# Altium schematic symbol library kmilo17pet-NSC_MiscPower.SchLib: 1552 symbols (part 33 of 43)
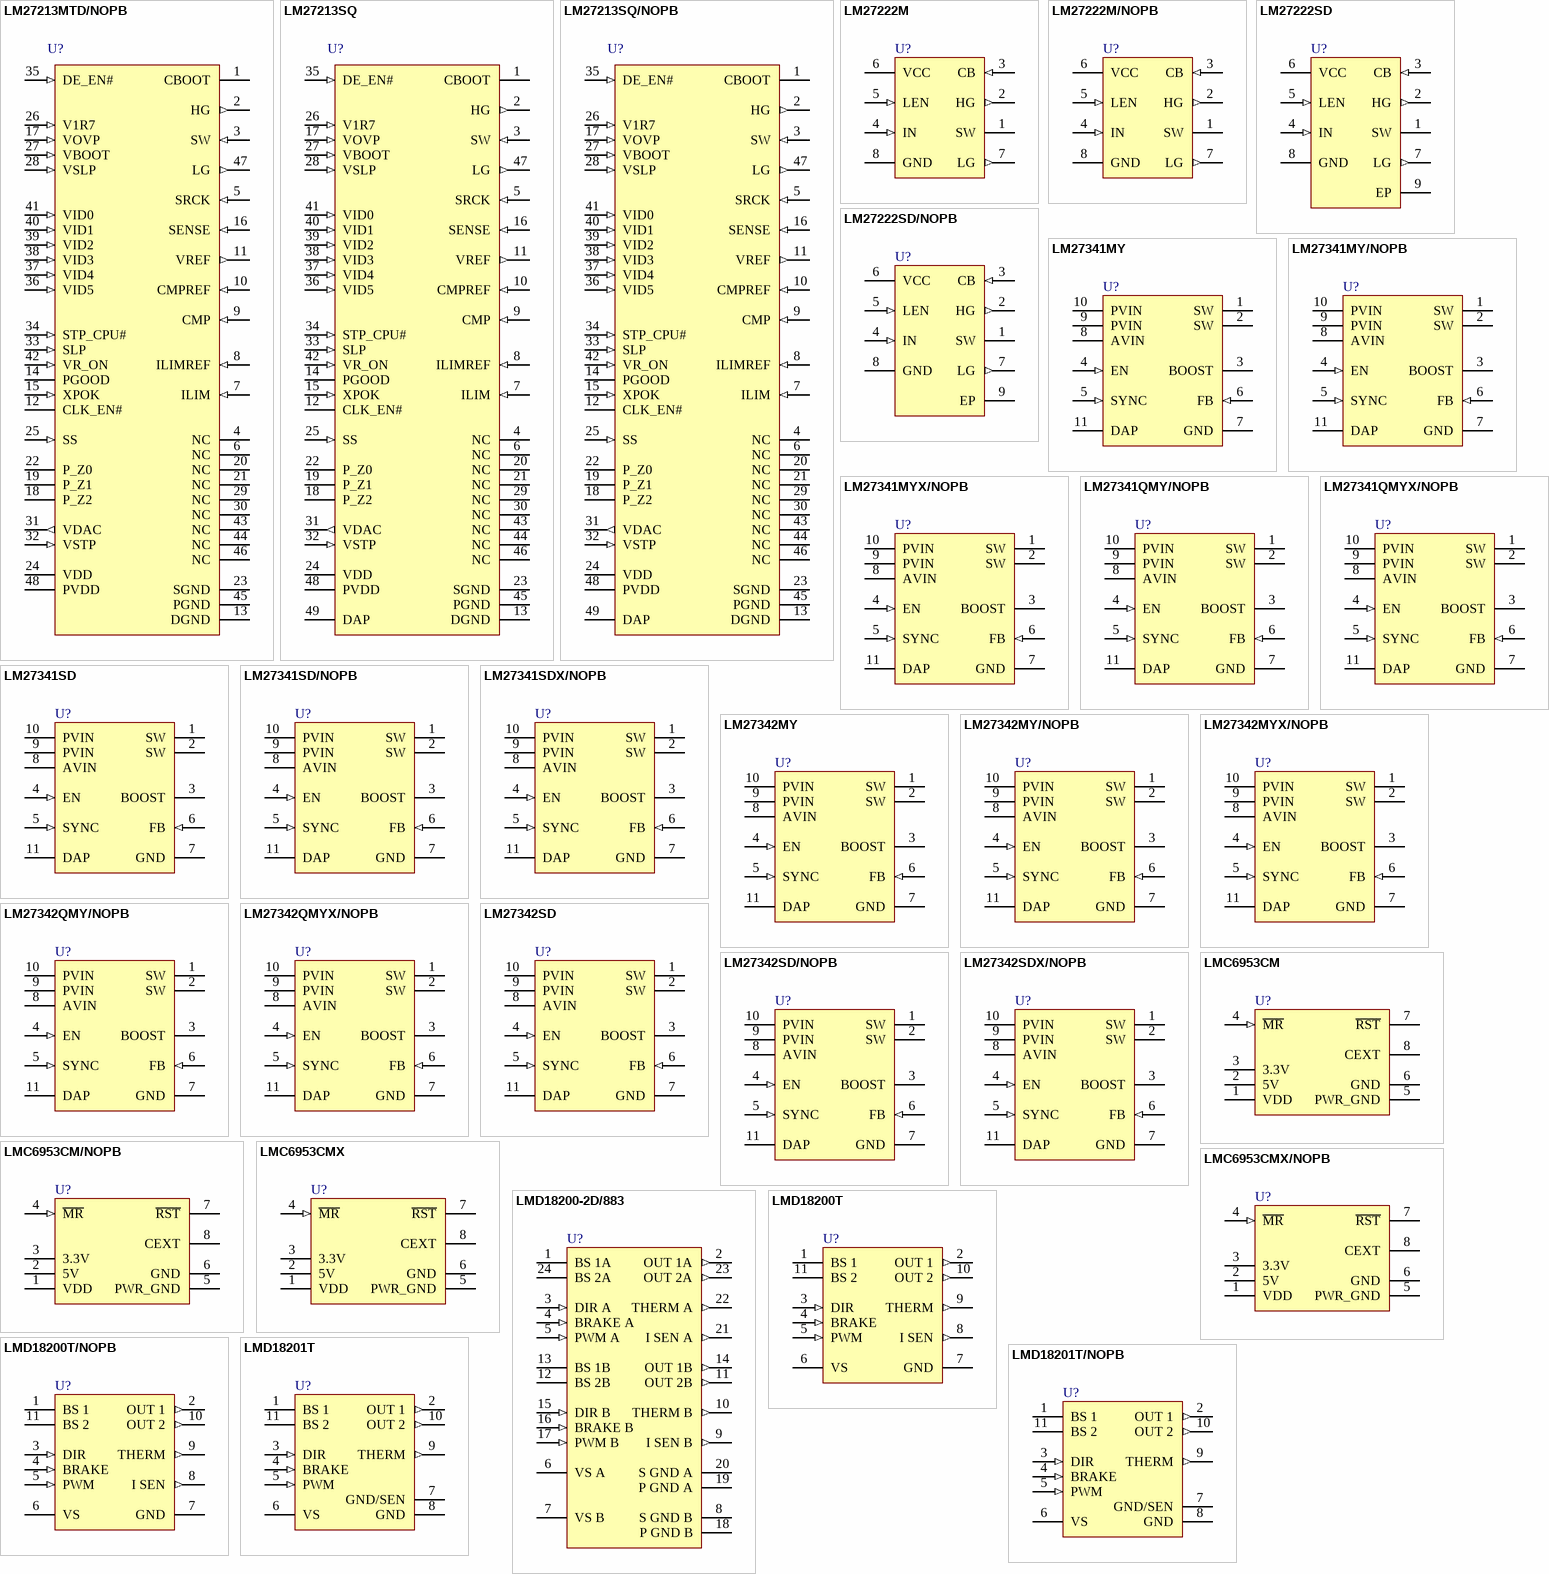
[diagram p89: symbols LM27213MTD/NOPB to LMD18201T/NOPB]

## LM27342SD
designator U?
2MHz 2A - Wide Input Range Buck Regulator with Frequency Synchronization, 10-pin LLP; PartNumber: LM27342SD; Manufacturer: National Semiconductor; PackageTopMarking: ZXYTT*L231A; PowerWise: N; CompType: MiscPower; High-Reliability: Y; DatasheetVersion: Feb-2010; PackageVersion: revA, Oct-2003; PackageReference: SDA10A; PackageDescription: LLP, Plastic, Dual, 3 x 3 x 0.8mm Body, 10 Lead, 0.5mm Pitch, No Pullback; RoHS: Y; PinCount: 10; ComponentLink1Description: Manufacturer URL; ComponentLink1URL: http://www.national.com/; ComponentLink2Description: LM27341 Datasheet; ComponentLink2URL: http://www.national.com/ds/LM/LM27341.pdf; ComponentLink3Description: LM27342 Web Page; ComponentLink3URL: http://www.national.com/pf/LM/LM27342.html; ComponentLink4Description: SDA10A Package Page; ComponentLink4URL: http://www.national.com/packaging/folders/sda10a.html
footprint SDA10A (SON, 10-Leads, Body 3x3 mm, Pitch 0.5mm, NSC Recommended)
pins: 1 SW (power), 2 SW (power), 3 BOOST, 4 EN (in), 5 SYNC (in), 6 FB (in), 7 GND (power), 8 AVIN (power), 9 PVIN (power), 10 PVIN (power), 11 DAP (power)

## LM27342SD/NOPB
designator U?
2A - Wide Input Range Buck Regulator with Frequency Synchronization, 10-pin LLP, Pb-Free; PartNumber: LM27342SD/NOPB; Manufacturer: National Semiconductor; PackageTopMarking: ZXYTT*L231A; PowerWise: N; CompType: MiscPower; High-Reliability: Y; DatasheetVersion: Dec-2008; PackageVersion: revA, Oct-2003; PackageReference: SDA10A; PackageDescription: LLP, Plastic, Dual, 3 x 3 x 0.8mm Body, 10 Lead, 0.5mm Pitch, No Pullback; RoHS: Y; PinCount: 10; ComponentLink1Description: Manufacturer URL; ComponentLink1URL: http://www.national.com/; ComponentLink2Description: LM27342 Datasheet; ComponentLink2URL: http://www.national.com/ds/LM/LM27342.pdf; ComponentLink3Description: LM27342 Web Page; ComponentLink3URL: http://www.national.com/pf/LM/LM27342.html; ComponentLink4Description: SDA10A Package Page; ComponentLink4URL: http://www.national.com/packaging/folders/sda10a.html
footprint SDA10A (SON, 10-Leads, Body 3x3 mm, Pitch 0.5mm, NSC Recommended)
pins: 1 SW (power), 2 SW (power), 3 BOOST, 4 EN (in), 5 SYNC (in), 6 FB (in), 7 GND (power), 8 AVIN (power), 9 PVIN (power), 10 PVIN (power), 11 DAP (power)

## LM27342SDX/NOPB
designator U?
2A - Wide Input Range Buck Regulator with Frequency Synchronization, 10-pin LLP, Pb-Free; PartNumber: LM27342SDX/NOPB; Manufacturer: National Semiconductor; PackageTopMarking: ZXYTT*L231A; PowerWise: N; CompType: MiscPower; High-Reliability: Y; DatasheetVersion: Dec-2008; PackageVersion: revA, Oct-2003; PackageReference: SDA10A; PackageDescription: LLP, Plastic, Dual, 3 x 3 x 0.8mm Body, 10 Lead, 0.5mm Pitch, No Pullback; RoHS: Y; PinCount: 10; ComponentLink1Description: Manufacturer URL; ComponentLink1URL: http://www.national.com/; ComponentLink2Description: LM27342 Datasheet; ComponentLink2URL: http://www.national.com/ds/LM/LM27342.pdf; ComponentLink3Description: LM27342 Web Page; ComponentLink3URL: http://www.national.com/pf/LM/LM27342.html; ComponentLink4Description: SDA10A Package Page; ComponentLink4URL: http://www.national.com/packaging/folders/sda10a.html
footprint SDA10A (SON, 10-Leads, Body 3x3 mm, Pitch 0.5mm, NSC Recommended)
pins: 1 SW (power), 2 SW (power), 3 BOOST, 4 EN (in), 5 SYNC (in), 6 FB (in), 7 GND (power), 8 AVIN (power), 9 PVIN (power), 10 PVIN (power), 11 DAP (power)

## LMC6953CM
designator U?
PCI Local Bus Power Supervisor, 8-pin Narrow SOIC; PartNumber: LMC6953CM; Manufacturer: National Semiconductor; PackageTopMarking: NSZXTT*LMC69*53CM; PowerWise: N; CompType: MiscPower; High-Reliability: Y; DatasheetVersion: Feb-2005; PackageVersion: revM, May-2009; PackageReference: M08A; PackageDescription: SOIC Narrow, 4.9 x 3.9 x 1.45mm, 8 Lead, 1.27mm Pitch; RoHS: N; PinCount: 8; Code_JEDEC: MS-012-AA; Code_IPC: SOIC127P600-8; ComponentLink1Description: Manufacturer URL; ComponentLink1URL: http://www.national.com/; ComponentLink2Description: LMC6953 Datasheet; ComponentLink2URL: http://www.national.com/ds/LM/LMC6953.pdf; ComponentLink3Description: LMC6953 Web Page; ComponentLink3URL: http://www.national.com/pf/LM/LMC6953.html; ComponentLink4Description: M08A Package Page; ComponentLink4URL: http://www.national.com/packaging/folders/m08a.html
footprint M08A_N (SOIC, 8-Leads, Body 4.9x3.9mm, Pitch 1.27mm, IPC Medium Density)
footprint M08A_L (SOIC, 8-Leads, Body 4.9x3.9mm, Pitch 1.27mm, IPC High Density)
footprint M08A_M (SOIC, 8-Leads, Body 4.9x3.9mm, Pitch 1.27mm, IPC Low Density)
pins: 1 VDD (power), 2 5V (power), 3 3.3V (power), 4 ~{MR} (in), 5 PWR_GND (power), 6 GND (power), 7 ~{RST} (oc), 8 CEXT

## LMC6953CM/NOPB
designator U?
PCI Local Bus Power Supervisor, 8-pin Narrow SOIC, Pb-Free; PartNumber: LMC6953CM/NOPB; Manufacturer: National Semiconductor; PackageTopMarking: NSZXTT*LMC69*53CM; PowerWise: N; CompType: MiscPower; High-Reliability: Y; DatasheetVersion: Feb-2005; PackageVersion: revM, May-2009; PackageReference: M08A; PackageDescription: SOIC Narrow, 4.9 x 3.9 x 1.45mm, 8 Lead, 1.27mm Pitch; RoHS: Y; PinCount: 8; Code_JEDEC: MS-012-AA; Code_IPC: SOIC127P600-8; ComponentLink1Description: Manufacturer URL; ComponentLink1URL: http://www.national.com/; ComponentLink2Description: LMC6953 Datasheet; ComponentLink2URL: http://www.national.com/ds/LM/LMC6953.pdf; ComponentLink3Description: LMC6953 Web Page; ComponentLink3URL: http://www.national.com/pf/LM/LMC6953.html; ComponentLink4Description: M08A Package Page; ComponentLink4URL: http://www.national.com/packaging/folders/m08a.html
footprint M08A_N (SOIC, 8-Leads, Body 4.9x3.9mm, Pitch 1.27mm, IPC Medium Density)
footprint M08A_L (SOIC, 8-Leads, Body 4.9x3.9mm, Pitch 1.27mm, IPC High Density)
footprint M08A_M (SOIC, 8-Leads, Body 4.9x3.9mm, Pitch 1.27mm, IPC Low Density)
pins: 1 VDD (power), 2 5V (power), 3 3.3V (power), 4 ~{MR} (in), 5 PWR_GND (power), 6 GND (power), 7 ~{RST} (oc), 8 CEXT

## LMC6953CMX
designator U?
PCI Local Bus Power Supervisor, 8-pin Narrow SOIC; PartNumber: LMC6953CMX; Manufacturer: National Semiconductor; PackageTopMarking: NSZXTT*LMC69*53CM; PowerWise: N; CompType: MiscPower; High-Reliability: Y; DatasheetVersion: Feb-2005; PackageVersion: revM, May-2009; PackageReference: M08A; PackageDescription: SOIC Narrow, 4.9 x 3.9 x 1.45mm, 8 Lead, 1.27mm Pitch; RoHS: N; PinCount: 8; Code_JEDEC: MS-012-AA; Code_IPC: SOIC127P600-8; ComponentLink1Description: Manufacturer URL; ComponentLink1URL: http://www.national.com/; ComponentLink2Description: LMC6953 Datasheet; ComponentLink2URL: http://www.national.com/ds/LM/LMC6953.pdf; ComponentLink3Description: LMC6953 Web Page; ComponentLink3URL: http://www.national.com/pf/LM/LMC6953.html; ComponentLink4Description: M08A Package Page; ComponentLink4URL: http://www.national.com/packaging/folders/m08a.html
footprint M08A_N (SOIC, 8-Leads, Body 4.9x3.9mm, Pitch 1.27mm, IPC Medium Density)
footprint M08A_L (SOIC, 8-Leads, Body 4.9x3.9mm, Pitch 1.27mm, IPC High Density)
footprint M08A_M (SOIC, 8-Leads, Body 4.9x3.9mm, Pitch 1.27mm, IPC Low Density)
pins: 1 VDD (power), 2 5V (power), 3 3.3V (power), 4 ~{MR} (in), 5 PWR_GND (power), 6 GND (power), 7 ~{RST} (oc), 8 CEXT

## LMC6953CMX/NOPB
designator U?
PCI Local Bus Power Supervisor, 8-pin Narrow SOIC, Pb-Free; PartNumber: LMC6953CMX/NOPB; Manufacturer: National Semiconductor; PackageTopMarking: NSZXTT*LMC69*53CM; PowerWise: N; CompType: MiscPower; High-Reliability: Y; DatasheetVersion: Feb-2005; PackageVersion: revM, May-2009; PackageReference: M08A; PackageDescription: SOIC Narrow, 4.9 x 3.9 x 1.45mm, 8 Lead, 1.27mm Pitch; RoHS: Y; PinCount: 8; Code_JEDEC: MS-012-AA; Code_IPC: SOIC127P600-8; ComponentLink1Description: Manufacturer URL; ComponentLink1URL: http://www.national.com/; ComponentLink2Description: LMC6953 Datasheet; ComponentLink2URL: http://www.national.com/ds/LM/LMC6953.pdf; ComponentLink3Description: LMC6953 Web Page; ComponentLink3URL: http://www.national.com/pf/LM/LMC6953.html; ComponentLink4Description: M08A Package Page; ComponentLink4URL: http://www.national.com/packaging/folders/m08a.html
footprint M08A_N (SOIC, 8-Leads, Body 4.9x3.9mm, Pitch 1.27mm, IPC Medium Density)
footprint M08A_L (SOIC, 8-Leads, Body 4.9x3.9mm, Pitch 1.27mm, IPC High Density)
footprint M08A_M (SOIC, 8-Leads, Body 4.9x3.9mm, Pitch 1.27mm, IPC Low Density)
pins: 1 VDD (power), 2 5V (power), 3 3.3V (power), 4 ~{MR} (in), 5 PWR_GND (power), 6 GND (power), 7 ~{RST} (oc), 8 CEXT

## LMD18200-2D/883
designator U?
3A, 55V H-Bridge, 24-pin CerDIP; PartNumber: LMD18200-2D/883; Manufacturer: National Semiconductor; PackageTopMarking: NS ZSSXXYYA*LMD18200-2D/883 Q*5962-9232501MXA; PowerWise: N; CompType: MiscPower; High-Reliability: Y; DatasheetVersion: Apr-2005; PackageVersion: revA, Feb-1994; PackageReference: DA24B; PackageDescription: DIP, Sidebrazed Ceramic, 24 Lead, Dual Cavity, .600in Centers; RoHS: N; PinCount: 24; Code_JEDEC: MS-015-CA; ComponentLink1Description: Manufacturer URL; ComponentLink1URL: http://www.national.com/; ComponentLink2Description: LMD18200 Datasheet; ComponentLink2URL: http://www.national.com/ds/LM/LMD18200QML.pdf; ComponentLink3Description: LMD18200 Web Page; ComponentLink3URL: http://www.national.com/pf/LM/LMD18200.html; ComponentLink4Description: DA24B Package Page; ComponentLink4URL: http://www.national.com/packaging/folders/da24b.html
footprint DA24B (DIP, 24-Leads, Row Spacing 15.24mm, Pitch 2.54mm, Body 31.2x15.1mm)
pins: 1 BS 1A, 2 OUT 1A (out), 3 DIR A (in), 4 BRAKE A (in), 5 PWM A (in), 6 VS A (power), 7 VS B (power), 8 S GND B (power), 9 I SEN B (out), 10 THERM B (out), 11 OUT 2B (out), 12 BS 2B, 13 BS 1B, 14 OUT 1B (out), 15 DIR B (in), 16 BRAKE B (in), 17 PWM B (in), 18 P GND B (power), 19 P GND A (power), 20 S GND A (power), 21 I SEN A (out), 22 THERM A (out), 23 OUT 2A (out), 24 BS 2A

## LMD18200T
designator U?
3A, 55V H-Bridge, 11-pin TO-220; PartNumber: LMD18200T; Manufacturer: National Semiconductor; PackageTopMarking: NSUZXYTTE#*LMD18200T*P+; PowerWise: N; CompType: MiscPower; High-Reliability: Y; DatasheetVersion: Apr-2005; PackageVersion: revA, Mar-1987; PackageReference: TA11B; PackageDescription: TO-220, Molded, .788 x .421in Body, 11 Lead, .067in Pitch; RoHS: N; PinCount: 11; ComponentLink1Description: Manufacturer URL; ComponentLink1URL: http://www.national.com/; ComponentLink2Description: LMD18200 Datasheet; ComponentLink2URL: http://www.national.com/ds/LM/LMD18200.pdf; ComponentLink3Description: LMD18200 Web Page; ComponentLink3URL: http://www.national.com/pf/LM/LMD18200.html; ComponentLink4Description: TA11B Package Page; ComponentLink4URL: http://www.national.com/packaging/folders/ta11b.html
footprint TA11B (TO, Thru-Hole, Vertical, Heatsink Mounted; 11 Bent Staggered Leads; Body 20x10.7x4.5mm, Pitch 1.7 mm)
pins: 1 BS 1, 2 OUT 1 (out), 3 DIR (in), 4 BRAKE (in), 5 PWM (in), 6 VS (power), 7 GND (power), 8 I SEN (out), 9 THERM (out), 10 OUT 2 (out), 11 BS 2

## LMD18200T/NOPB
designator U?
3A, 55V H-Bridge, 11-pin TO-220, Pb-Free; PartNumber: LMD18200T/NOPB; Manufacturer: National Semiconductor; PackageTopMarking: NSUZXYTTE#*LMD18200T*P+; PowerWise: N; CompType: MiscPower; High-Reliability: Y; DatasheetVersion: Apr-2005; PackageVersion: revA, Mar-1987; PackageReference: TA11B; PackageDescription: TO-220, Molded, .788 x .421in Body, 11 Lead, .067in Pitch; RoHS: Y; PinCount: 11; ComponentLink1Description: Manufacturer URL; ComponentLink1URL: http://www.national.com/; ComponentLink2Description: LMD18200 Datasheet; ComponentLink2URL: http://www.national.com/ds/LM/LMD18200.pdf; ComponentLink3Description: LMD18200 Web Page; ComponentLink3URL: http://www.national.com/pf/LM/LMD18200.html; ComponentLink4Description: TA11B Package Page; ComponentLink4URL: http://www.national.com/packaging/folders/ta11b.html
footprint TA11B (TO, Thru-Hole, Vertical, Heatsink Mounted; 11 Bent Staggered Leads; Body 20x10.7x4.5mm, Pitch 1.7 mm)
pins: 1 BS 1, 2 OUT 1 (out), 3 DIR (in), 4 BRAKE (in), 5 PWM (in), 6 VS (power), 7 GND (power), 8 I SEN (out), 9 THERM (out), 10 OUT 2 (out), 11 BS 2

## LMD18201T
designator U?
3-Amp, 55 Volt H-Bridge, 11-pin TO-220; PartNumber: LMD18201T; Manufacturer: National Semiconductor; PackageTopMarking: NSUZXYTTE#*LMD18201T P+; PowerWise: N; CompType: MiscPower; High-Reliability: Y; DatasheetVersion: Oct-2000; PackageVersion: revA, Mar-1987; PackageReference: TA11B; PackageDescription: TO-220, Molded, .788 x .421in Body, 11 Lead, .067in Pitch; RoHS: N; PinCount: 11; ComponentLink1Description: Manufacturer URL; ComponentLink1URL: http://www.national.com/; ComponentLink2Description: LMD18201 Datasheet; ComponentLink2URL: http://www.national.com/ds/LM/LMD18201.pdf; ComponentLink3Description: LMD18201 Web Page; ComponentLink3URL: http://www.national.com/pf/LM/LMD18201.html; ComponentLink4Description: TA11B Package Page; ComponentLink4URL: http://www.national.com/packaging/folders/ta11b.html
footprint TA11B (TO, Thru-Hole, Vertical, Heatsink Mounted; 11 Bent Staggered Leads; Body 20x10.7x4.5mm, Pitch 1.7 mm)
pins: 1 BS 1, 2 OUT 1 (out), 3 DIR (in), 4 BRAKE (in), 5 PWM (in), 6 VS (power), 7 GND/SEN (power), 8 GND (power), 9 THERM (out), 10 OUT 2 (out), 11 BS 2

## LMD18201T/NOPB
designator U?
3-Amp, 55 Volt H-Bridge, 11-pin TO-220, Pb-Free; PartNumber: LMD18201T/NOPB; Manufacturer: National Semiconductor; PackageTopMarking: NSUZXYTTE#*LMD18201T P+; PowerWise: N; CompType: MiscPower; High-Reliability: Y; DatasheetVersion: Oct-2000; PackageVersion: revA, Mar-1987; PackageReference: TA11B; PackageDescription: TO-220, Molded, .788 x .421in Body, 11 Lead, .067in Pitch; RoHS: Y; PinCount: 11; ComponentLink1Description: Manufacturer URL; ComponentLink1URL: http://www.national.com/; ComponentLink2Description: LMD18201 Datasheet; ComponentLink2URL: http://www.national.com/ds/LM/LMD18201.pdf; ComponentLink3Description: LMD18201 Web Page; ComponentLink3URL: http://www.national.com/pf/LM/LMD18201.html; ComponentLink4Description: TA11B Package Page; ComponentLink4URL: http://www.national.com/packaging/folders/ta11b.html
footprint TA11B (TO, Thru-Hole, Vertical, Heatsink Mounted; 11 Bent Staggered Leads; Body 20x10.7x4.5mm, Pitch 1.7 mm)
pins: 1 BS 1, 2 OUT 1 (out), 3 DIR (in), 4 BRAKE (in), 5 PWM (in), 6 VS (power), 7 GND/SEN (power), 8 GND (power), 9 THERM (out), 10 OUT 2 (out), 11 BS 2

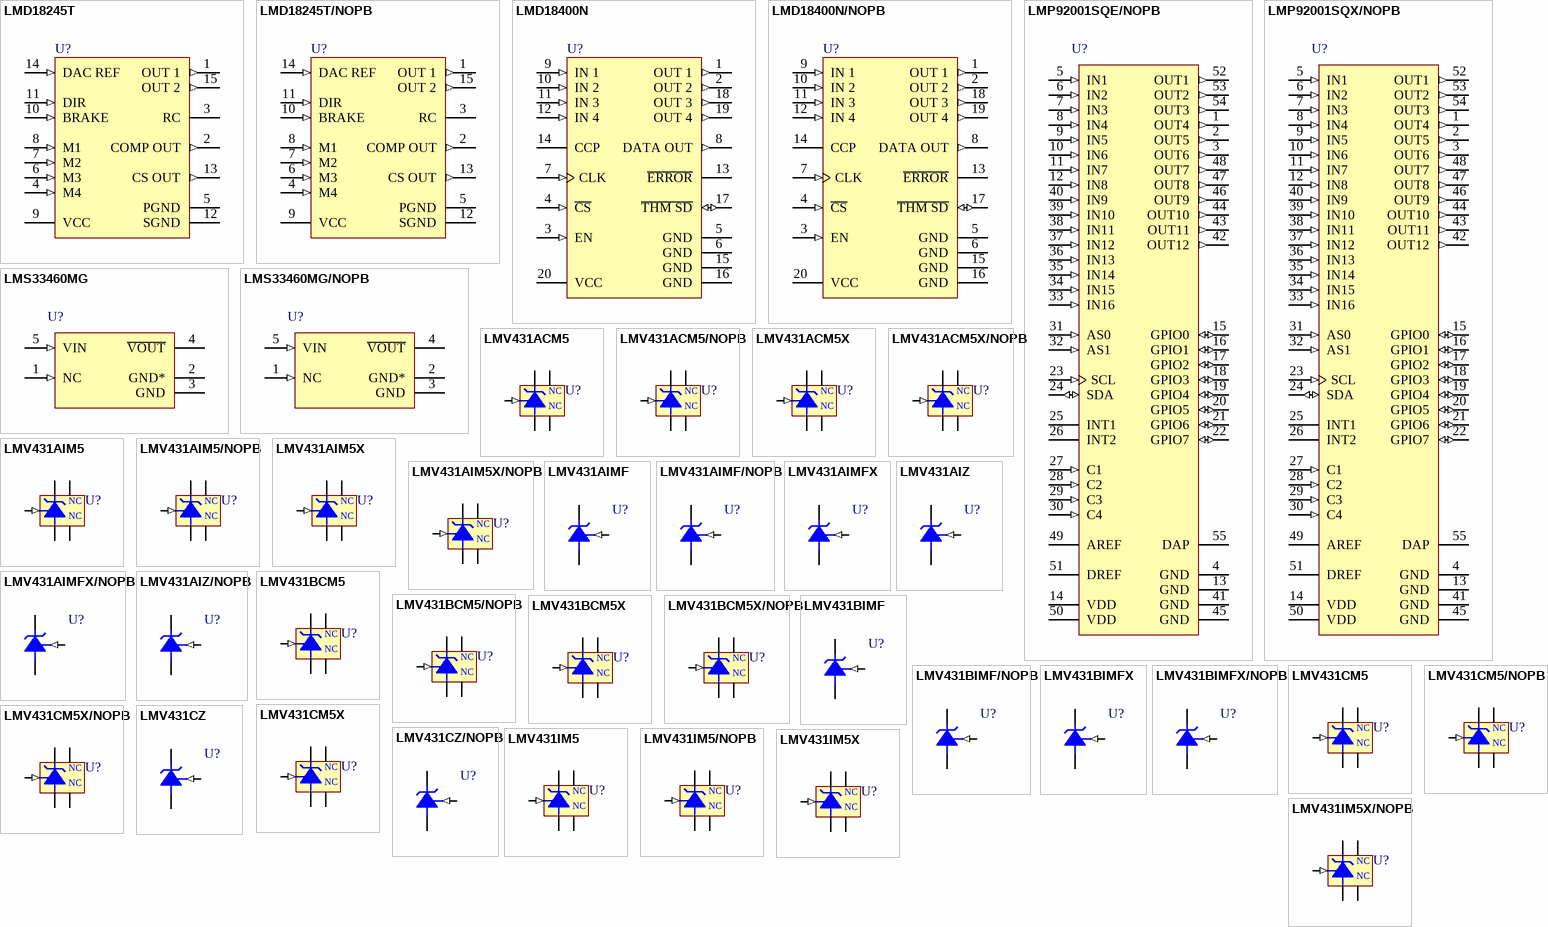
[diagram p37: symbols LMD18245T to LMV431IM5X/NOPB]

## LMD18245T
designator U?
3A, 55V DMOS Full-Bridge Motor Driver, 15-pin TO-220; PartNumber: LMD18245T; Manufacturer: National Semiconductor; PackageTopMarking: NSUZXYTTE#*LMD18245T*P+; PowerWise: N; CompType: MiscPower; High-Reliability: Y; DatasheetVersion: Mar-2006; PackageVersion: revA, Nov-1985; PackageReference: TA15A; PackageDescription: TO-220, Molded, .788 x .421in Body, 15 Lead, .05in Pitch; RoHS: N; PinCount: 15; ComponentLink1Description: Manufacturer URL; ComponentLink1URL: http://www.national.com/; ComponentLink2Description: LMD18245 Datasheet; ComponentLink2URL: http://www.national.com/ds/LM/LMD18245.pdf; ComponentLink3Description: LMD18245 Web Page; ComponentLink3URL: http://www.national.com/pf/LM/LMD18245.html; ComponentLink4Description: TA15A Package Page; ComponentLink4URL: http://www.national.com/packaging/folders/ta15a.html
footprint TA15A (TO, Thru-Hole, Vertical, Heatsink Mounted; 15 Bent Staggered Leads; Body 20x10.7x4.5mm, Pitch 1.27 mm)
pins: 1 OUT 1 (out), 2 COMP OUT (out), 3 RC, 4 M4 (in), 5 PGND (power), 6 M3 (in), 7 M2 (in), 8 M1 (in), 9 VCC (power), 10 BRAKE (in), 11 DIR (in), 12 SGND (power), 13 CS OUT (out), 14 DAC REF (in), 15 OUT 2 (out)

## LMD18245T/NOPB
designator U?
3A, 55V DMOS Full-Bridge Motor Driver, 15-pin TO-220, Pb-Free; PartNumber: LMD18245T/NOPB; Manufacturer: National Semiconductor; PackageTopMarking: NSUZXYTTE#*LMD18245T*P+; PowerWise: N; CompType: MiscPower; High-Reliability: Y; DatasheetVersion: Mar-2006; PackageVersion: revA, Nov-1985; PackageReference: TA15A; PackageDescription: TO-220, Molded, .788 x .421in Body, 15 Lead, .05in Pitch; RoHS: Y; PinCount: 15; ComponentLink1Description: Manufacturer URL; ComponentLink1URL: http://www.national.com/; ComponentLink2Description: LMD18245 Datasheet; ComponentLink2URL: http://www.national.com/ds/LM/LMD18245.pdf; ComponentLink3Description: LMD18245 Web Page; ComponentLink3URL: http://www.national.com/pf/LM/LMD18245.html; ComponentLink4Description: TA15A Package Page; ComponentLink4URL: http://www.national.com/packaging/folders/ta15a.html
footprint TA15A (TO, Thru-Hole, Vertical, Heatsink Mounted; 15 Bent Staggered Leads; Body 20x10.7x4.5mm, Pitch 1.27 mm)
pins: 1 OUT 1 (out), 2 COMP OUT (out), 3 RC, 4 M4 (in), 5 PGND (power), 6 M3 (in), 7 M2 (in), 8 M1 (in), 9 VCC (power), 10 BRAKE (in), 11 DIR (in), 12 SGND (power), 13 CS OUT (out), 14 DAC REF (in), 15 OUT 2 (out)

## LMD18400N
designator U?
Quad High Side Driver, 20-pin MDIP; PartNumber: LMD18400N; Manufacturer: National Semiconductor; PackageTopMarking: NSUZXYYTTE#*LMD18400N; PowerWise: N; CompType: MiscPower; High-Reliability: Y; DatasheetVersion: Jun-1996; PackageVersion: revG, Nov-1984; PackageReference: N20A; PackageDescription: Molded Dip (N) 20 Lead; RoHS: N; PinCount: 20; Code_JEDEC: MS-001-AD; ComponentLink1Description: Manufacturer URL; ComponentLink1URL: http://www.national.com/; ComponentLink2Description: LMD18400 Datasheet; ComponentLink2URL: http://www.national.com/ds/LM/LMD18400.pdf; ComponentLink3Description: LMD18400 Web Page; ComponentLink3URL: http://www.national.com/pf/LM/LMD18400.html; ComponentLink4Description: N20A Package Page; ComponentLink4URL: http://www.national.com/packaging/folders/n20a.html
footprint N20A (DIP, 20-Leads, Row Spacing 7.62mm, Pitch 2.54mm, Body 26.07x6.6mm)
pins: 1 OUT 1 (out), 2 OUT 2 (out), 3 EN (in), 4 ~{CS} (in), 5 GND (power), 6 GND (power), 7 CLK (in), 8 DATA OUT (out), 9 IN 1 (in), 10 IN 2 (in), 11 IN 3 (in), 12 IN 4 (in), 13 ~{ERROR} (oc), 14 CCP, 15 GND (power), 16 GND (power), 17 ~{THM SD} (io), 18 OUT 3 (out), 19 OUT 4 (out), 20 VCC (power)

## LMD18400N/NOPB
designator U?
Quad High Side Driver, 20-pin MDIP, Pb-Free; PartNumber: LMD18400N/NOPB; Manufacturer: National Semiconductor; PackageTopMarking: NSUZXYYTTE#*LMD18400N; PowerWise: N; CompType: MiscPower; High-Reliability: Y; DatasheetVersion: Jun-1996; PackageVersion: revG, Nov-1984; PackageReference: N20A; PackageDescription: Molded Dip (N) 20 Lead; RoHS: Y; PinCount: 20; Code_JEDEC: MS-001-AD; ComponentLink1Description: Manufacturer URL; ComponentLink1URL: http://www.national.com/; ComponentLink2Description: LMD18400 Datasheet; ComponentLink2URL: http://www.national.com/ds/LM/LMD18400.pdf; ComponentLink3Description: LMD18400 Web Page; ComponentLink3URL: http://www.national.com/pf/LM/LMD18400.html; ComponentLink4Description: N20A Package Page; ComponentLink4URL: http://www.national.com/packaging/folders/n20a.html
footprint N20A (DIP, 20-Leads, Row Spacing 7.62mm, Pitch 2.54mm, Body 26.07x6.6mm)
pins: 1 OUT 1 (out), 2 OUT 2 (out), 3 EN (in), 4 ~{CS} (in), 5 GND (power), 6 GND (power), 7 CLK (in), 8 DATA OUT (out), 9 IN 1 (in), 10 IN 2 (in), 11 IN 3 (in), 12 IN 4 (in), 13 ~{ERROR} (oc), 14 CCP, 15 GND (power), 16 GND (power), 17 ~{THM SD} (io), 18 OUT 3 (out), 19 OUT 4 (out), 20 VCC (power)

## LMP92001SQE/NOPB
designator U?
Analog System Monitor and Controller, 54-pin LLP, 250 Reel, Pb-Free; PartNumber: LMP92001SQE/NOPB; Manufacturer: National Semiconductor; PackageTopMarking: NS*UZXYTTE#*LMP92001SQ; PowerWise: N; CompType: MiscPower; High-Reliability: Y; DatasheetVersion: Feb-2011; PackageVersion: revB, Jun-2009; PackageReference: SQA54A; PackageDescription: LLP, Plastic, Quad, 10 x 10 x 0.8 mm Body, 54 Lead, 0.5 mm Pitch (SQA54A); RoHS: Y; PinCount: 54; ComponentLink1Description: Manufacturer URL; ComponentLink1URL: http://www.national.com/; ComponentLink2Description: LMP92001 Datasheet; ComponentLink2URL: http://www.national.com/ds/LM/LMP92001.pdf; ComponentLink3Description: LMP92001 Web Page; ComponentLink3URL: http://www.national.com/pf/LM/LMP92001.html; ComponentLink4Description: SQA54A Package Page; ComponentLink4URL: http://www.national.com/packaging/folders/sqa54a.html
footprint SQA54A (PQFN, 54-Leads, (18x9 pads), Body 10x10mm, Pitch 0.5mm, NSC Recommended)
pins: 1 OUT4 (out), 2 OUT5 (out), 3 OUT6 (out), 4 GND (power), 5 IN1 (in), 6 IN2 (in), 7 IN3 (in), 8 IN4 (in), 9 IN5 (in), 10 IN6 (in), 11 IN7 (in), 12 IN8 (in), 13 GND (power), 14 VDD (power), 15 GPIO0 (io), 16 GPIO1 (io), 17 GPIO2 (io), 18 GPIO3 (io), 19 GPIO4 (io), 20 GPIO5 (io), 21 GPIO6 (io), 22 GPIO7 (io), 23 SCL (in), 24 SDA (io), 25 INT1 (oc), 26 INT2 (oc), 27 C1 (in), 28 C2 (in), 29 C3 (in), 30 C4 (in), 31 AS0 (in), 32 AS1 (in), 33 IN16 (in), 34 IN15 (in), 35 IN14 (in), 36 IN13 (in), 37 IN12 (in), 38 IN11 (in), 39 IN10 (in), 40 IN9 (in), 41 GND (power), 42 OUT12 (out), 43 OUT11 (out), 44 OUT10 (out), 45 GND (power), 46 OUT9 (out), 47 OUT8 (out), 48 OUT7 (out), 49 AREF, 50 VDD (power), 51 DREF, 52 OUT1 (out), 53 OUT2 (out), 54 OUT3 (out), 55 DAP (power)

## LMP92001SQX/NOPB
designator U?
Analog System Monitor and Controller, 54-pin LLP, 2000 Reel, Pb-Free; PartNumber: LMP92001SQX/NOPB; Manufacturer: National Semiconductor; PackageTopMarking: NS*UZXYTTE#*LMP92001SQ; PowerWise: N; CompType: MiscPower; High-Reliability: Y; DatasheetVersion: Feb-2011; PackageVersion: revB, Jun-2009; PackageReference: SQA54A; PackageDescription: LLP, Plastic, Quad, 10 x 10 x 0.8 mm Body, 54 Lead, 0.5 mm Pitch (SQA54A); RoHS: Y; PinCount: 54; ComponentLink1Description: Manufacturer URL; ComponentLink1URL: http://www.national.com/; ComponentLink2Description: LMP92001 Datasheet; ComponentLink2URL: http://www.national.com/ds/LM/LMP92001.pdf; ComponentLink3Description: LMP92001 Web Page; ComponentLink3URL: http://www.national.com/pf/LM/LMP92001.html; ComponentLink4Description: SQA54A Package Page; ComponentLink4URL: http://www.national.com/packaging/folders/sqa54a.html
footprint SQA54A (PQFN, 54-Leads, (18x9 pads), Body 10x10mm, Pitch 0.5mm, NSC Recommended)
pins: 1 OUT4 (out), 2 OUT5 (out), 3 OUT6 (out), 4 GND (power), 5 IN1 (in), 6 IN2 (in), 7 IN3 (in), 8 IN4 (in), 9 IN5 (in), 10 IN6 (in), 11 IN7 (in), 12 IN8 (in), 13 GND (power), 14 VDD (power), 15 GPIO0 (io), 16 GPIO1 (io), 17 GPIO2 (io), 18 GPIO3 (io), 19 GPIO4 (io), 20 GPIO5 (io), 21 GPIO6 (io), 22 GPIO7 (io), 23 SCL (in), 24 SDA (io), 25 INT1 (oc), 26 INT2 (oc), 27 C1 (in), 28 C2 (in), 29 C3 (in), 30 C4 (in), 31 AS0 (in), 32 AS1 (in), 33 IN16 (in), 34 IN15 (in), 35 IN14 (in), 36 IN13 (in), 37 IN12 (in), 38 IN11 (in), 39 IN10 (in), 40 IN9 (in), 41 GND (power), 42 OUT12 (out), 43 OUT11 (out), 44 OUT10 (out), 45 GND (power), 46 OUT9 (out), 47 OUT8 (out), 48 OUT7 (out), 49 AREF, 50 VDD (power), 51 DREF, 52 OUT1 (out), 53 OUT2 (out), 54 OUT3 (out), 55 DAP (power)

## LMS33460MG
designator U?
3V Under Voltage Detector, 5-pin SC-70; PartNumber: LMS33460MG; Manufacturer: National Semiconductor; PackageTopMarking: C33*XTT; PowerWise: N; CompType: MiscPower; High-Reliability: Y; DatasheetVersion: Mar-2001; PackageVersion: revD, Jun-2007; PackageReference: MAA05A; PackageDescription: Molded SC-70, 2 x 1.25 x .9mm, 5 Lead, 0.65mm Pitch; RoHS: N; PinCount: 5; Code_JEITA: SC-88A; Code_JEDEC: MO-203-AA; Code_IPC: SOT353-5; ComponentLink1Description: Manufacturer URL; ComponentLink1URL: http://www.national.com/; ComponentLink2Description: LMS33460 Datasheet; ComponentLink2URL: http://www.national.com/ds/LM/LMS33460.pdf; ComponentLink3Description: LMS33460 Web Page; ComponentLink3URL: http://www.national.com/pf/LM/LMS33460.html; ComponentLink4Description: MAA05A Package Page; ComponentLink4URL: http://www.national.com/packaging/folders/maa05a.html
footprint MAA05A_N (SOT353, 5-Leads, Body 2x1.3mm, Pitch 0.65mm, Lead Span 2.1mm, IPC Medium Density)
footprint MAA05A_L (SOT353, 5-Leads, Body 2x1.3mm, Pitch 0.65mm, Lead Span 2.1mm, IPC High Density)
footprint MAA05A_M (SOT353, 5-Leads, Body 2x1.3mm, Pitch 0.65mm, Lead Span 2.1mm, IPC Low Density)
pins: 1 NC (in), 2 GND* "Internally connected to ground.  This pin should be either left floating or connected to ground.", 3 GND (power), 4 ~{VOUT} (oc), 5 VIN (in)

## LMS33460MG/NOPB
designator U?
3V Under Voltage Detector, 5-pin SC-70, Pb-Free; PartNumber: LMS33460MG/NOPB; Manufacturer: National Semiconductor; PackageTopMarking: C33*XTT; PowerWise: N; CompType: MiscPower; High-Reliability: Y; DatasheetVersion: Mar-2001; PackageVersion: revD, Jun-2007; PackageReference: MAA05A; PackageDescription: Molded SC-70, 2 x 1.25 x .9mm, 5 Lead, 0.65mm Pitch; RoHS: Y; PinCount: 5; Code_JEITA: SC-88A; Code_JEDEC: MO-203-AA; Code_IPC: SOT353-5; ComponentLink1Description: Manufacturer URL; ComponentLink1URL: http://www.national.com/; ComponentLink2Description: LMS33460 Datasheet; ComponentLink2URL: http://www.national.com/ds/LM/LMS33460.pdf; ComponentLink3Description: LMS33460 Web Page; ComponentLink3URL: http://www.national.com/pf/LM/LMS33460.html; ComponentLink4Description: MAA05A Package Page; ComponentLink4URL: http://www.national.com/packaging/folders/maa05a.html
footprint MAA05A_N (SOT353, 5-Leads, Body 2x1.3mm, Pitch 0.65mm, Lead Span 2.1mm, IPC Medium Density)
footprint MAA05A_L (SOT353, 5-Leads, Body 2x1.3mm, Pitch 0.65mm, Lead Span 2.1mm, IPC High Density)
footprint MAA05A_M (SOT353, 5-Leads, Body 2x1.3mm, Pitch 0.65mm, Lead Span 2.1mm, IPC Low Density)
pins: 1 NC (in), 2 GND* "Internally connected to ground.  This pin should be either left floating or connected to ground.", 3 GND (power), 4 ~{VOUT} (oc), 5 VIN (in)

## LMV431ACM5
designator U?
Low-Voltage (1.24V) Adjustable Precision Shunt Regulator, 5-pin SOT-23; PartNumber: LMV431ACM5; Manufacturer: National Semiconductor; PackageTopMarking: N09A*XTT; PowerWise: N; CompType: MiscPower; High-Reliability: Y; DatasheetVersion: May-2005; PackageVersion: revD, Aug-2008; PackageReference: MF05A; PackageDescription: Molded SOT-23, .115 x .063 x .040 in Body, 5 Lead, .0375 in Pitch; RoHS: N; PinCount: 5; ComponentLink1Description: Manufacturer URL; ComponentLink1URL: http://www.national.com/; ComponentLink2Description: LMV431A Datasheet; ComponentLink2URL: http://www.national.com/ds/LM/LMV431A.pdf; ComponentLink3Description: LMV431A Web Page; ComponentLink3URL: http://www.national.com/pf/LM/LMV431A.html; ComponentLink4Description: MF05A Package Page; ComponentLink4URL: http://www.national.com/packaging/folders/mf05a.html
footprint MF05A_N (SOT23, 5-Leads, Body 2.9x1.6mm, Pitch 0.95mm, Lead Span 2.8mm, IPC Medium Density)
footprint MF05A_L (SOT23, 5-Leads, Body 2.9x1.6mm, Pitch 0.95mm, Lead Span 2.8mm, IPC High Density)
footprint MF05A_M (SOT23, 5-Leads, Body 2.9x1.6mm, Pitch 0.95mm, Lead Span 2.8mm, IPC Low Density)
pins: 1 NC, 2 NC, 3 K, 4 REF (in), 5 A

## LMV431ACM5/NOPB
designator U?
Low-Voltage (1.24V) Adjustable Precision Shunt Regulators, 5-pin SOT-23, Pb-Free; PartNumber: LMV431ACM5/NOPB; Manufacturer: National Semiconductor; PackageTopMarking: N09A*XTT; PowerWise: N; CompType: MiscPower; High-Reliability: Y; DatasheetVersion: May-2005; PackageVersion: revD, Aug-2008; PackageReference: MF05A; PackageDescription: Molded SOT-23, .115 x .063 x .040 in Body, 5 Lead, .0375 in Pitch; RoHS: Y; PinCount: 5; ComponentLink1Description: Manufacturer URL; ComponentLink1URL: http://www.national.com/; ComponentLink2Description: LMV431A Datasheet; ComponentLink2URL: http://www.national.com/ds/LM/LMV431A.pdf; ComponentLink3Description: LMV431A Web Page; ComponentLink3URL: http://www.national.com/pf/LM/LMV431A.html; ComponentLink4Description: MF05A Package Page; ComponentLink4URL: http://www.national.com/packaging/folders/mf05a.html
footprint MF05A_N (SOT23, 5-Leads, Body 2.9x1.6mm, Pitch 0.95mm, Lead Span 2.8mm, IPC Medium Density)
footprint MF05A_L (SOT23, 5-Leads, Body 2.9x1.6mm, Pitch 0.95mm, Lead Span 2.8mm, IPC High Density)
footprint MF05A_M (SOT23, 5-Leads, Body 2.9x1.6mm, Pitch 0.95mm, Lead Span 2.8mm, IPC Low Density)
pins: 1 NC, 2 NC, 3 K, 4 REF (in), 5 A

## LMV431ACM5X
designator U?
Low-Voltage (1.24V) Adjustable Precision Shunt Regulators, 5-pin SOT-23; PartNumber: LMV431ACM5X; Manufacturer: National Semiconductor; PackageTopMarking: N09A*XTT; PowerWise: N; CompType: MiscPower; High-Reliability: Y; DatasheetVersion: May-2005; PackageVersion: revD, Aug-2008; PackageReference: MF05A; PackageDescription: Molded SOT-23, .115 x .063 x .040 in Body, 5 Lead, .0375 in Pitch; RoHS: N; PinCount: 5; ComponentLink1Description: Manufacturer URL; ComponentLink1URL: http://www.national.com/; ComponentLink2Description: LMV431A Datasheet; ComponentLink2URL: http://www.national.com/ds/LM/LMV431A.pdf; ComponentLink3Description: LMV431A Web Page; ComponentLink3URL: http://www.national.com/pf/LM/LMV431A.html; ComponentLink4Description: MF05A Package Page; ComponentLink4URL: http://www.national.com/packaging/folders/mf05a.html
footprint MF05A_N (SOT23, 5-Leads, Body 2.9x1.6mm, Pitch 0.95mm, Lead Span 2.8mm, IPC Medium Density)
footprint MF05A_L (SOT23, 5-Leads, Body 2.9x1.6mm, Pitch 0.95mm, Lead Span 2.8mm, IPC High Density)
footprint MF05A_M (SOT23, 5-Leads, Body 2.9x1.6mm, Pitch 0.95mm, Lead Span 2.8mm, IPC Low Density)
pins: 1 NC, 2 NC, 3 K, 4 REF (in), 5 A

## LMV431ACM5X/NOPB
designator U?
Low-Voltage (1.24V) Adjustable Precision Shunt Regulators, 5-pin SOT-23, Pb-Free; PartNumber: LMV431ACM5X/NOPB; Manufacturer: National Semiconductor; PackageTopMarking: N09A*XTT; PowerWise: N; CompType: MiscPower; High-Reliability: Y; DatasheetVersion: May-2005; PackageVersion: revD, Aug-2008; PackageReference: MF05A; PackageDescription: Molded SOT-23, .115 x .063 x .040 in Body, 5 Lead, .0375 in Pitch; RoHS: Y; PinCount: 5; ComponentLink1Description: Manufacturer URL; ComponentLink1URL: http://www.national.com/; ComponentLink2Description: LMV431A Datasheet; ComponentLink2URL: http://www.national.com/ds/LM/LMV431A.pdf; ComponentLink3Description: LMV431A Web Page; ComponentLink3URL: http://www.national.com/pf/LM/LMV431A.html; ComponentLink4Description: MF05A Package Page; ComponentLink4URL: http://www.national.com/packaging/folders/mf05a.html
footprint MF05A_N (SOT23, 5-Leads, Body 2.9x1.6mm, Pitch 0.95mm, Lead Span 2.8mm, IPC Medium Density)
footprint MF05A_L (SOT23, 5-Leads, Body 2.9x1.6mm, Pitch 0.95mm, Lead Span 2.8mm, IPC High Density)
footprint MF05A_M (SOT23, 5-Leads, Body 2.9x1.6mm, Pitch 0.95mm, Lead Span 2.8mm, IPC Low Density)
pins: 1 NC, 2 NC, 3 K, 4 REF (in), 5 A

## LMV431AIM5
designator U?
Low-Voltage (1.24V) Adjustable Precision Shunt Regulator, 5-pin SOT-23; PartNumber: LMV431AIM5; Manufacturer: National Semiconductor; PackageTopMarking: N08A*XTT; PowerWise: N; CompType: MiscPower; High-Reliability: Y; DatasheetVersion: May-2005; PackageVersion: revD, Aug-2008; PackageReference: MF05A; PackageDescription: Molded SOT-23, .115 x .063 x .040 in Body, 5 Lead, .0375 in Pitch; RoHS: N; PinCount: 5; ComponentLink1Description: Manufacturer URL; ComponentLink1URL: http://www.national.com/; ComponentLink2Description: LMV431A Datasheet; ComponentLink2URL: http://www.national.com/ds/LM/LMV431A.pdf; ComponentLink3Description: LMV431A Web Page; ComponentLink3URL: http://www.national.com/pf/LM/LMV431A.html; ComponentLink4Description: MF05A Package Page; ComponentLink4URL: http://www.national.com/packaging/folders/mf05a.html
footprint MF05A_N (SOT23, 5-Leads, Body 2.9x1.6mm, Pitch 0.95mm, Lead Span 2.8mm, IPC Medium Density)
footprint MF05A_L (SOT23, 5-Leads, Body 2.9x1.6mm, Pitch 0.95mm, Lead Span 2.8mm, IPC High Density)
footprint MF05A_M (SOT23, 5-Leads, Body 2.9x1.6mm, Pitch 0.95mm, Lead Span 2.8mm, IPC Low Density)
pins: 1 NC, 2 NC, 3 K, 4 REF (in), 5 A

## LMV431AIM5/NOPB
designator U?
Low-Voltage (1.24V) Adjustable Precision Shunt Regulators, 5-pin SOT-23, Pb-Free; PartNumber: LMV431AIM5/NOPB; Manufacturer: National Semiconductor; PackageTopMarking: N08A*XTT; PowerWise: N; CompType: MiscPower; High-Reliability: Y; DatasheetVersion: May-2005; PackageVersion: revD, Aug-2008; PackageReference: MF05A; PackageDescription: Molded SOT-23, .115 x .063 x .040 in Body, 5 Lead, .0375 in Pitch; RoHS: Y; PinCount: 5; ComponentLink1Description: Manufacturer URL; ComponentLink1URL: http://www.national.com/; ComponentLink2Description: LMV431A Datasheet; ComponentLink2URL: http://www.national.com/ds/LM/LMV431A.pdf; ComponentLink3Description: LMV431A Web Page; ComponentLink3URL: http://www.national.com/pf/LM/LMV431A.html; ComponentLink4Description: MF05A Package Page; ComponentLink4URL: http://www.national.com/packaging/folders/mf05a.html
footprint MF05A_N (SOT23, 5-Leads, Body 2.9x1.6mm, Pitch 0.95mm, Lead Span 2.8mm, IPC Medium Density)
footprint MF05A_L (SOT23, 5-Leads, Body 2.9x1.6mm, Pitch 0.95mm, Lead Span 2.8mm, IPC High Density)
footprint MF05A_M (SOT23, 5-Leads, Body 2.9x1.6mm, Pitch 0.95mm, Lead Span 2.8mm, IPC Low Density)
pins: 1 NC, 2 NC, 3 K, 4 REF (in), 5 A

## LMV431AIM5X
designator U?
Low-Voltage (1.24V) Adjustable Precision Shunt Regulators, 5-pin SOT-23; PartNumber: LMV431AIM5X; Manufacturer: National Semiconductor; PackageTopMarking: N08A*XTT; PowerWise: N; CompType: MiscPower; High-Reliability: Y; DatasheetVersion: May-2005; PackageVersion: revD, Aug-2008; PackageReference: MF05A; PackageDescription: Molded SOT-23, .115 x .063 x .040 in Body, 5 Lead, .0375 in Pitch; RoHS: N; PinCount: 5; ComponentLink1Description: Manufacturer URL; ComponentLink1URL: http://www.national.com/; ComponentLink2Description: LMV431A Datasheet; ComponentLink2URL: http://www.national.com/ds/LM/LMV431A.pdf; ComponentLink3Description: LMV431A Web Page; ComponentLink3URL: http://www.national.com/pf/LM/LMV431A.html; ComponentLink4Description: MF05A Package Page; ComponentLink4URL: http://www.national.com/packaging/folders/mf05a.html
footprint MF05A_N (SOT23, 5-Leads, Body 2.9x1.6mm, Pitch 0.95mm, Lead Span 2.8mm, IPC Medium Density)
footprint MF05A_L (SOT23, 5-Leads, Body 2.9x1.6mm, Pitch 0.95mm, Lead Span 2.8mm, IPC High Density)
footprint MF05A_M (SOT23, 5-Leads, Body 2.9x1.6mm, Pitch 0.95mm, Lead Span 2.8mm, IPC Low Density)
pins: 1 NC, 2 NC, 3 K, 4 REF (in), 5 A

## LMV431AIM5X/NOPB
designator U?
Low-Voltage (1.24V) Adjustable Precision Shunt Regulators, 5-pin SOT-23, Pb-Free; PartNumber: LMV431AIM5X/NOPB; Manufacturer: National Semiconductor; PackageTopMarking: N08A*XTT; PowerWise: N; CompType: MiscPower; High-Reliability: Y; DatasheetVersion: May-2005; PackageVersion: revD, Aug-2008; PackageReference: MF05A; PackageDescription: Molded SOT-23, .115 x .063 x .040 in Body, 5 Lead, .0375 in Pitch; RoHS: Y; PinCount: 5; ComponentLink1Description: Manufacturer URL; ComponentLink1URL: http://www.national.com/; ComponentLink2Description: LMV431A Datasheet; ComponentLink2URL: http://www.national.com/ds/LM/LMV431A.pdf; ComponentLink3Description: LMV431A Web Page; ComponentLink3URL: http://www.national.com/pf/LM/LMV431A.html; ComponentLink4Description: MF05A Package Page; ComponentLink4URL: http://www.national.com/packaging/folders/mf05a.html
footprint MF05A_N (SOT23, 5-Leads, Body 2.9x1.6mm, Pitch 0.95mm, Lead Span 2.8mm, IPC Medium Density)
footprint MF05A_L (SOT23, 5-Leads, Body 2.9x1.6mm, Pitch 0.95mm, Lead Span 2.8mm, IPC High Density)
footprint MF05A_M (SOT23, 5-Leads, Body 2.9x1.6mm, Pitch 0.95mm, Lead Span 2.8mm, IPC Low Density)
pins: 1 NC, 2 NC, 3 K, 4 REF (in), 5 A

## LMV431AIMF
designator U?
Low-Voltage (1.24V) Adjustable Precision Shunt Regulator, 3-pin SOT-23; PartNumber: LMV431AIMF; Manufacturer: National Semiconductor; PackageTopMarking: RLA*XTT; PowerWise: N; CompType: MiscPower; High-Reliability: Y; DatasheetVersion: May-2005; PackageVersion: revB, Mar-2003; PackageReference: MF03A; PackageDescription: Molded SOT-23, .115 x .051 x .037in Body, 3 Lead, .075 in Pitch; RoHS: N; PinCount: 3; ComponentLink1Description: Manufacturer URL; ComponentLink1URL: http://www.national.com/; ComponentLink2Description: LMV431A Datasheet; ComponentLink2URL: http://www.national.com/ds/LM/LMV431A.pdf; ComponentLink3Description: LMV431A Web Page; ComponentLink3URL: http://www.national.com/pf/LM/LMV431A.html; ComponentLink4Description: MF03A Package Page; ComponentLink4URL: http://www.national.com/packaging/folders/mf03a.html
footprint MF03A_N (SOT23, 3-Leads, Body 2.9x1.3mm, Pitch 0.95mm, Lead Span 2.4mm, IPC Medium Density)
footprint MF03A_L (SOT23, 3-Leads, Body 2.9x1.3mm, Pitch 0.95mm, Lead Span 2.4mm, IPC High Density)
footprint MF03A_M (SOT23, 3-Leads, Body 2.9x1.3mm, Pitch 0.95mm, Lead Span 2.4mm, IPC Low Density)
pins: 1 REF (in), 2 K, 3 A

## LMV431AIMF/NOPB
designator U?
Low-Voltage (1.24V) Adjustable Precision Shunt Regulators, 3-pin SOT-23, Pb-Free; PartNumber: LMV431AIMF/NOPB; Manufacturer: National Semiconductor; PackageTopMarking: RLA*XTT; PowerWise: N; CompType: MiscPower; High-Reliability: Y; DatasheetVersion: May-2005; PackageVersion: revB, Mar-2003; PackageReference: MF03A; PackageDescription: Molded SOT-23, .115 x .051 x .037in Body, 3 Lead, .075 in Pitch; RoHS: Y; PinCount: 3; ComponentLink1Description: Manufacturer URL; ComponentLink1URL: http://www.national.com/; ComponentLink2Description: LMV431A Datasheet; ComponentLink2URL: http://www.national.com/ds/LM/LMV431A.pdf; ComponentLink3Description: LMV431A Web Page; ComponentLink3URL: http://www.national.com/pf/LM/LMV431A.html; ComponentLink4Description: MF03A Package Page; ComponentLink4URL: http://www.national.com/packaging/folders/mf03a.html
footprint MF03A_N (SOT23, 3-Leads, Body 2.9x1.3mm, Pitch 0.95mm, Lead Span 2.4mm, IPC Medium Density)
footprint MF03A_L (SOT23, 3-Leads, Body 2.9x1.3mm, Pitch 0.95mm, Lead Span 2.4mm, IPC High Density)
footprint MF03A_M (SOT23, 3-Leads, Body 2.9x1.3mm, Pitch 0.95mm, Lead Span 2.4mm, IPC Low Density)
pins: 1 REF (in), 2 K, 3 A

## LMV431AIMFX
designator U?
Low-Voltage (1.24V) Adjustable Precision Shunt Regulators, 3-pin SOT-23; PartNumber: LMV431AIMFX; Manufacturer: National Semiconductor; PackageTopMarking: RLA*XTT; PowerWise: N; CompType: MiscPower; High-Reliability: Y; DatasheetVersion: May-2005; PackageVersion: revB, Mar-2003; PackageReference: MF03A; PackageDescription: Molded SOT-23, .115 x .051 x .037in Body, 3 Lead, .075 in Pitch; RoHS: N; PinCount: 3; ComponentLink1Description: Manufacturer URL; ComponentLink1URL: http://www.national.com/; ComponentLink2Description: LMV431A Datasheet; ComponentLink2URL: http://www.national.com/ds/LM/LMV431A.pdf; ComponentLink3Description: LMV431A Web Page; ComponentLink3URL: http://www.national.com/pf/LM/LMV431A.html; ComponentLink4Description: MF03A Package Page; ComponentLink4URL: http://www.national.com/packaging/folders/mf03a.html
footprint MF03A_N (SOT23, 3-Leads, Body 2.9x1.3mm, Pitch 0.95mm, Lead Span 2.4mm, IPC Medium Density)
footprint MF03A_L (SOT23, 3-Leads, Body 2.9x1.3mm, Pitch 0.95mm, Lead Span 2.4mm, IPC High Density)
footprint MF03A_M (SOT23, 3-Leads, Body 2.9x1.3mm, Pitch 0.95mm, Lead Span 2.4mm, IPC Low Density)
pins: 1 REF (in), 2 K, 3 A

## LMV431AIMFX/NOPB
designator U?
Low-Voltage (1.24V) Adjustable Precision Shunt Regulators, 3-pin SOT-23, Pb-Free; PartNumber: LMV431AIMFX/NOPB; Manufacturer: National Semiconductor; PackageTopMarking: RLA*XTT; PowerWise: N; CompType: MiscPower; High-Reliability: Y; DatasheetVersion: May-2005; PackageVersion: revB, Mar-2003; PackageReference: MF03A; PackageDescription: Molded SOT-23, .115 x .051 x .037in Body, 3 Lead, .075 in Pitch; RoHS: Y; PinCount: 3; ComponentLink1Description: Manufacturer URL; ComponentLink1URL: http://www.national.com/; ComponentLink2Description: LMV431A Datasheet; ComponentLink2URL: http://www.national.com/ds/LM/LMV431A.pdf; ComponentLink3Description: LMV431A Web Page; ComponentLink3URL: http://www.national.com/pf/LM/LMV431A.html; ComponentLink4Description: MF03A Package Page; ComponentLink4URL: http://www.national.com/packaging/folders/mf03a.html
footprint MF03A_N (SOT23, 3-Leads, Body 2.9x1.3mm, Pitch 0.95mm, Lead Span 2.4mm, IPC Medium Density)
footprint MF03A_L (SOT23, 3-Leads, Body 2.9x1.3mm, Pitch 0.95mm, Lead Span 2.4mm, IPC High Density)
footprint MF03A_M (SOT23, 3-Leads, Body 2.9x1.3mm, Pitch 0.95mm, Lead Span 2.4mm, IPC Low Density)
pins: 1 REF (in), 2 K, 3 A

## LMV431AIZ
designator U?
Low-Voltage (1.24V) Adjustable Precision Shunt Regulator, 3-pin TO-92; PartNumber: LMV431AIZ; Manufacturer: National Semiconductor; PackageTopMarking: NSXYTT*LMV431*AIZ; PowerWise: N; CompType: MiscPower; High-Reliability: Y; DatasheetVersion: May-2005; PackageVersion: revG, Sep-2000; PackageReference: Z03A; PackageDescription: TO-92, Molded, 3 Lead; RoHS: N; PinCount: 3; Code_JEDEC: TO-226-AA; ComponentLink1Description: Manufacturer URL; ComponentLink1URL: http://www.national.com/; ComponentLink2Description: LMV431A Datasheet; ComponentLink2URL: http://www.national.com/ds/LM/LMV431A.pdf; ComponentLink3Description: LMV431A Web Page; ComponentLink3URL: http://www.national.com/pf/LM/LMV431A.html; ComponentLink4Description: Z03A Package Page; ComponentLink4URL: http://www.national.com/packaging/folders/z03a.html
footprint Z03A (TO, Flat Index; 3 In-Line, Axial Leads; Body Dia. 5mm; Leads 0.55 x 0.50 mm (max))
pins: 1 REF (in), 2 A, 3 K

## LMV431AIZ/NOPB
designator U?
Low-Voltage (1.24V) Adjustable Precision Shunt Regulators, 3-pin TO-92, Pb-Free; PartNumber: LMV431AIZ/NOPB; Manufacturer: National Semiconductor; PackageTopMarking: NSXYTT*LMV431*AIZ; PowerWise: N; CompType: MiscPower; High-Reliability: Y; DatasheetVersion: May-2005; PackageVersion: revG, Sep-2000; PackageReference: Z03A; PackageDescription: TO-92, Molded, 3 Lead; RoHS: Y; PinCount: 3; Code_JEDEC: TO-226-AA; ComponentLink1Description: Manufacturer URL; ComponentLink1URL: http://www.national.com/; ComponentLink2Description: LMV431A Datasheet; ComponentLink2URL: http://www.national.com/ds/LM/LMV431A.pdf; ComponentLink3Description: LMV431A Web Page; ComponentLink3URL: http://www.national.com/pf/LM/LMV431A.html; ComponentLink4Description: Z03A Package Page; ComponentLink4URL: http://www.national.com/packaging/folders/z03a.html
footprint Z03A (TO, Flat Index; 3 In-Line, Axial Leads; Body Dia. 5mm; Leads 0.55 x 0.50 mm (max))
pins: 1 REF (in), 2 A, 3 K

## LMV431BCM5
designator U?
Low-Voltage (1.24V) Adjustable Precision Shunt Regulator, 5-pin SOT-23; PartNumber: LMV431BCM5; Manufacturer: National Semiconductor; PackageTopMarking: N09C*XTT; PowerWise: N; CompType: MiscPower; High-Reliability: Y; DatasheetVersion: May-2005; PackageVersion: revD, Aug-2008; PackageReference: MF05A; PackageDescription: Molded SOT-23, .115 x .063 x .040 in Body, 5 Lead, .0375 in Pitch; RoHS: N; PinCount: 5; ComponentLink1Description: Manufacturer URL; ComponentLink1URL: http://www.national.com/; ComponentLink2Description: LMV431B Datasheet; ComponentLink2URL: http://www.national.com/ds/LM/LMV431B.pdf; ComponentLink3Description: LMV431B Web Page; ComponentLink3URL: http://www.national.com/pf/LM/LMV431B.html; ComponentLink4Description: MF05A Package Page; ComponentLink4URL: http://www.national.com/packaging/folders/mf05a.html
footprint MF05A_N (SOT23, 5-Leads, Body 2.9x1.6mm, Pitch 0.95mm, Lead Span 2.8mm, IPC Medium Density)
footprint MF05A_L (SOT23, 5-Leads, Body 2.9x1.6mm, Pitch 0.95mm, Lead Span 2.8mm, IPC High Density)
footprint MF05A_M (SOT23, 5-Leads, Body 2.9x1.6mm, Pitch 0.95mm, Lead Span 2.8mm, IPC Low Density)
pins: 1 NC, 2 NC, 3 K, 4 REF (in), 5 A

## LMV431BCM5/NOPB
designator U?
Low-Voltage (1.24V) Adjustable Precision Shunt Regulators, 5-pin SOT-23, Pb-Free; PartNumber: LMV431BCM5/NOPB; Manufacturer: National Semiconductor; PackageTopMarking: N09C*XTT; PowerWise: N; CompType: MiscPower; High-Reliability: Y; DatasheetVersion: May-2005; PackageVersion: revD, Aug-2008; PackageReference: MF05A; PackageDescription: Molded SOT-23, .115 x .063 x .040 in Body, 5 Lead, .0375 in Pitch; RoHS: Y; PinCount: 5; ComponentLink1Description: Manufacturer URL; ComponentLink1URL: http://www.national.com/; ComponentLink2Description: LMV431B Datasheet; ComponentLink2URL: http://www.national.com/ds/LM/LMV431B.pdf; ComponentLink3Description: LMV431B Web Page; ComponentLink3URL: http://www.national.com/pf/LM/LMV431B.html; ComponentLink4Description: MF05A Package Page; ComponentLink4URL: http://www.national.com/packaging/folders/mf05a.html
footprint MF05A_N (SOT23, 5-Leads, Body 2.9x1.6mm, Pitch 0.95mm, Lead Span 2.8mm, IPC Medium Density)
footprint MF05A_L (SOT23, 5-Leads, Body 2.9x1.6mm, Pitch 0.95mm, Lead Span 2.8mm, IPC High Density)
footprint MF05A_M (SOT23, 5-Leads, Body 2.9x1.6mm, Pitch 0.95mm, Lead Span 2.8mm, IPC Low Density)
pins: 1 NC, 2 NC, 3 K, 4 REF (in), 5 A

## LMV431BCM5X
designator U?
Low-Voltage (1.24V) Adjustable Precision Shunt Regulators, 5-pin SOT-23; PartNumber: LMV431BCM5X; Manufacturer: National Semiconductor; PackageTopMarking: N09C*XTT; PowerWise: N; CompType: MiscPower; High-Reliability: Y; DatasheetVersion: May-2005; PackageVersion: revD, Aug-2008; PackageReference: MF05A; PackageDescription: Molded SOT-23, .115 x .063 x .040 in Body, 5 Lead, .0375 in Pitch; RoHS: N; PinCount: 5; ComponentLink1Description: Manufacturer URL; ComponentLink1URL: http://www.national.com/; ComponentLink2Description: LMV431B Datasheet; ComponentLink2URL: http://www.national.com/ds/LM/LMV431B.pdf; ComponentLink3Description: LMV431B Web Page; ComponentLink3URL: http://www.national.com/pf/LM/LMV431B.html; ComponentLink4Description: MF05A Package Page; ComponentLink4URL: http://www.national.com/packaging/folders/mf05a.html
footprint MF05A_N (SOT23, 5-Leads, Body 2.9x1.6mm, Pitch 0.95mm, Lead Span 2.8mm, IPC Medium Density)
footprint MF05A_L (SOT23, 5-Leads, Body 2.9x1.6mm, Pitch 0.95mm, Lead Span 2.8mm, IPC High Density)
footprint MF05A_M (SOT23, 5-Leads, Body 2.9x1.6mm, Pitch 0.95mm, Lead Span 2.8mm, IPC Low Density)
pins: 1 NC, 2 NC, 3 K, 4 REF (in), 5 A

## LMV431BCM5X/NOPB
designator U?
Low-Voltage (1.24V) Adjustable Precision Shunt Regulators, 5-pin SOT-23, Pb-Free; PartNumber: LMV431BCM5X/NOPB; Manufacturer: National Semiconductor; PackageTopMarking: N09C*XTT; PowerWise: N; CompType: MiscPower; High-Reliability: Y; DatasheetVersion: May-2005; PackageVersion: revD, Aug-2008; PackageReference: MF05A; PackageDescription: Molded SOT-23, .115 x .063 x .040 in Body, 5 Lead, .0375 in Pitch; RoHS: Y; PinCount: 5; ComponentLink1Description: Manufacturer URL; ComponentLink1URL: http://www.national.com/; ComponentLink2Description: LMV431B Datasheet; ComponentLink2URL: http://www.national.com/ds/LM/LMV431B.pdf; ComponentLink3Description: LMV431B Web Page; ComponentLink3URL: http://www.national.com/pf/LM/LMV431B.html; ComponentLink4Description: MF05A Package Page; ComponentLink4URL: http://www.national.com/packaging/folders/mf05a.html
footprint MF05A_N (SOT23, 5-Leads, Body 2.9x1.6mm, Pitch 0.95mm, Lead Span 2.8mm, IPC Medium Density)
footprint MF05A_L (SOT23, 5-Leads, Body 2.9x1.6mm, Pitch 0.95mm, Lead Span 2.8mm, IPC High Density)
footprint MF05A_M (SOT23, 5-Leads, Body 2.9x1.6mm, Pitch 0.95mm, Lead Span 2.8mm, IPC Low Density)
pins: 1 NC, 2 NC, 3 K, 4 REF (in), 5 A

## LMV431BIMF
designator U?
Low-Voltage (1.24V) Adjustable Precision Shunt Regulator, 3-pin SOT-23; PartNumber: LMV431BIMF; Manufacturer: National Semiconductor; PackageTopMarking: RLB*XTT; PowerWise: N; CompType: MiscPower; High-Reliability: Y; DatasheetVersion: May-2005; PackageVersion: revB, Mar-2003; PackageReference: MF03A; PackageDescription: Molded SOT-23, .115 x .051 x .037in Body, 3 Lead, .075 in Pitch; RoHS: N; PinCount: 3; ComponentLink1Description: Manufacturer URL; ComponentLink1URL: http://www.national.com/; ComponentLink2Description: LMV431B Datasheet; ComponentLink2URL: http://www.national.com/ds/LM/LMV431B.pdf; ComponentLink3Description: LMV431B Web Page; ComponentLink3URL: http://www.national.com/pf/LM/LMV431B.html; ComponentLink4Description: MF03A Package Page; ComponentLink4URL: http://www.national.com/packaging/folders/mf03a.html
footprint MF03A_N (SOT23, 3-Leads, Body 2.9x1.3mm, Pitch 0.95mm, Lead Span 2.4mm, IPC Medium Density)
footprint MF03A_L (SOT23, 3-Leads, Body 2.9x1.3mm, Pitch 0.95mm, Lead Span 2.4mm, IPC High Density)
footprint MF03A_M (SOT23, 3-Leads, Body 2.9x1.3mm, Pitch 0.95mm, Lead Span 2.4mm, IPC Low Density)
pins: 1 REF (in), 2 K, 3 A

## LMV431BIMF/NOPB
designator U?
Low-Voltage (1.24V) Adjustable Precision Shunt Regulators, 3-pin SOT-23, Pb-Free; PartNumber: LMV431BIMF/NOPB; Manufacturer: National Semiconductor; PackageTopMarking: RLB*XTT; PowerWise: N; CompType: MiscPower; High-Reliability: Y; DatasheetVersion: May-2005; PackageVersion: revB, Mar-2003; PackageReference: MF03A; PackageDescription: Molded SOT-23, .115 x .051 x .037in Body, 3 Lead, .075 in Pitch; RoHS: Y; PinCount: 3; ComponentLink1Description: Manufacturer URL; ComponentLink1URL: http://www.national.com/; ComponentLink2Description: LMV431B Datasheet; ComponentLink2URL: http://www.national.com/ds/LM/LMV431B.pdf; ComponentLink3Description: LMV431B Web Page; ComponentLink3URL: http://www.national.com/pf/LM/LMV431B.html; ComponentLink4Description: MF03A Package Page; ComponentLink4URL: http://www.national.com/packaging/folders/mf03a.html
footprint MF03A_N (SOT23, 3-Leads, Body 2.9x1.3mm, Pitch 0.95mm, Lead Span 2.4mm, IPC Medium Density)
footprint MF03A_L (SOT23, 3-Leads, Body 2.9x1.3mm, Pitch 0.95mm, Lead Span 2.4mm, IPC High Density)
footprint MF03A_M (SOT23, 3-Leads, Body 2.9x1.3mm, Pitch 0.95mm, Lead Span 2.4mm, IPC Low Density)
pins: 1 REF (in), 2 K, 3 A